# EAGLE library part LTP2057AG (library stepper_drivers_etc)
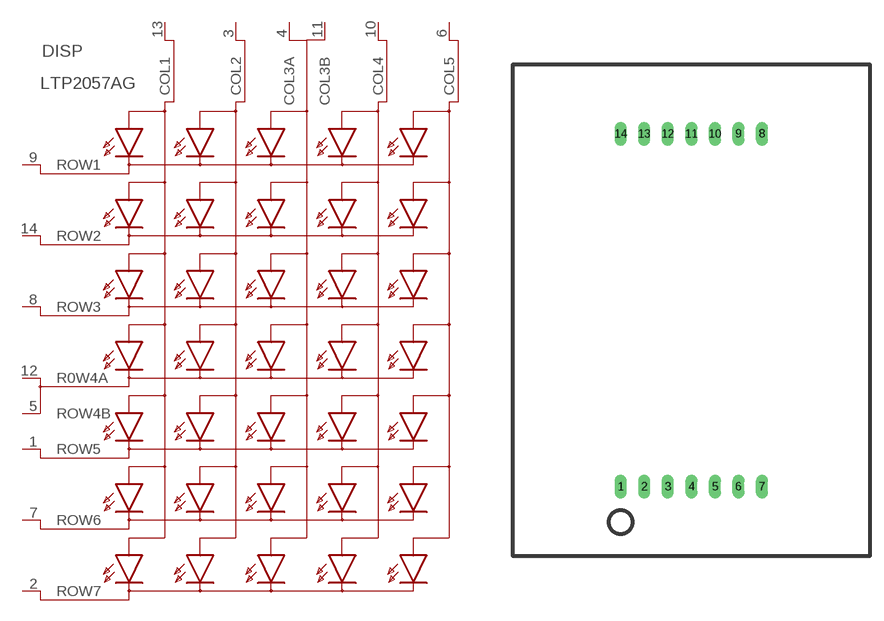
[diagram p20: symbol with the pads of LTP2057AG; footprint LTP2057AG]

Designator prefix DISP

## LTP2057AG  [LTP2057AG]
1  ROW5
2  ROW7
3  COL2
4  COL3A
5  ROW4B
6  COL5
7  ROW6
8  ROW3
9  ROW1
10  COL4
11  COL3B
12  R0W4A
13  COL1
14  ROW2

## Footprint LTP2057AG (pad centres in mm)
drill 0.8 long: 1 -7.62,-20.32; 2 -5.08,-20.32; 3 -2.54,-20.32; 4 0,-20.32; 5 2.54,-20.32; 6 5.08,-20.32; 7 7.62,-20.32; 8 7.62,17.78; 9 5.08,17.78; 10 2.54,17.78; 11 0,17.78; 12 -2.54,17.78; 13 -5.08,17.78; 14 -7.62,17.78